# EAGLE library part CONNECTOR_6PIN (library connectors)
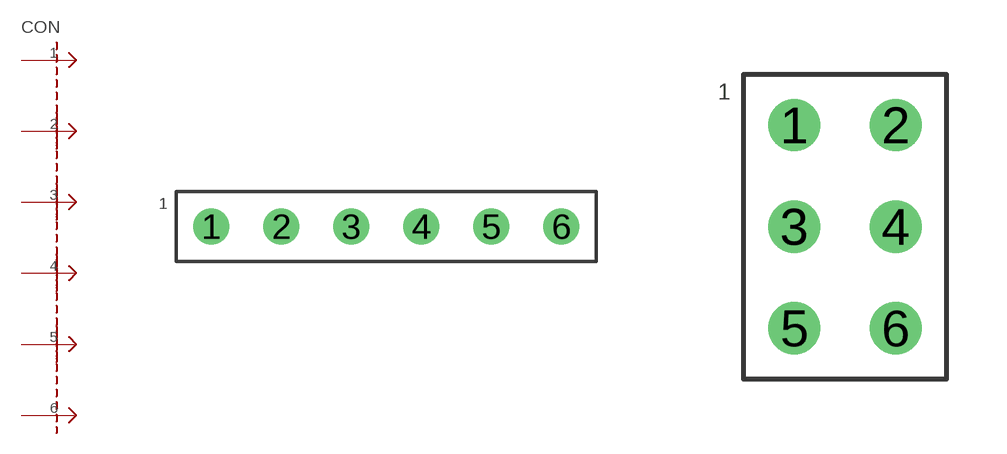
[diagram p0: symbol with the pads of 1X6_GENERIC; footprints 1X6_GENERIC, 2X3_GENERIC]

Designator prefix CON

## CONNECTOR_6PIN1X6  [1X6_GENERIC]
1  P$1
2  P$2
3  P$3
4  P$4
5  P$5
6  P$6

## CONNECTOR_6PIN2X3  [2X3_GENERIC]
Pads as for 1X6_GENERIC

## CONNECTOR_6PIN2X3_ISP  [2X3_ISP]
GND  P$6
MISO  P$2
MOSI  P$3
RST  P$4
SCK  P$5
V+  P$1

## Footprint 1X6_GENERIC (pad centres in mm)
drill 0.8: 1 -2.54,0; 2 0,0; 3 2.54,0; 4 5.08,0; 5 7.62,0; 6 10.16,0

## Footprint 2X3_GENERIC (pad centres in mm)
drill 0.8: 1 -1.27,0; 2 1.27,0; 3 -1.27,-2.54; 4 1.27,-2.54; 5 -1.27,-5.08; 6 1.27,-5.08

## Footprint 2X3_ISP (pad centres in mm)
drill 1: GND 1.27,-5.08; MISO -1.27,0; MOSI 1.27,-2.54; RST -1.27,-5.08; SCK -1.27,-2.54; V+ 1.27,0